# Altium schematic symbol library JT2.SchLib: 1 symbol
Pins are listed as number, name and electrical type; pins without a type are passive.

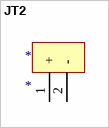
[diagram p0: symbol JT2]

## JT2
designator *
footprint PCBComponent_1
pins: 1 +, 2 -